# EAGLE library part PINHD-1X30 (library pinhead)
PIN HEADER
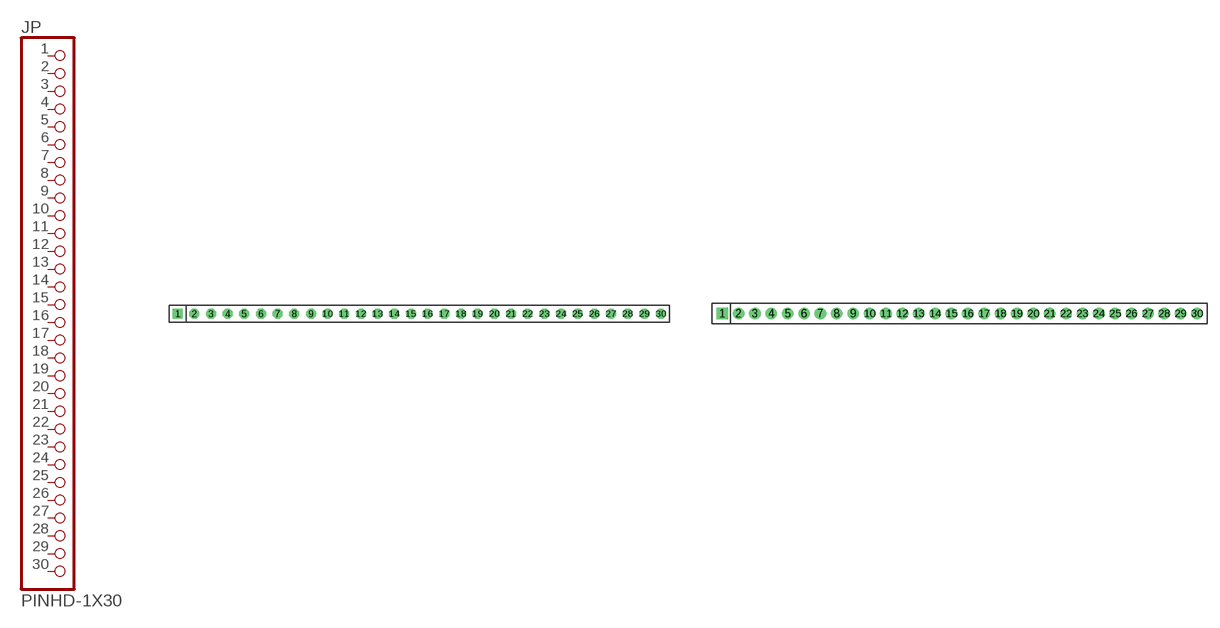
[diagram p24: symbol with the pads of 1X30; footprints 1X30, 1X30M]

Designator prefix JP

## PINHD-1X30  [1X30]
1  1  pas
2  2  pas
3  3  pas
4  4  pas
5  5  pas
6  6  pas
7  7  pas
8  8  pas
9  9  pas
10  10  pas
11  11  pas
12  12  pas
13  13  pas
14  14  pas
15  15  pas
16  16  pas
17  17  pas
18  18  pas
19  19  pas
20  20  pas
21  21  pas
22  22  pas
23  23  pas
24  24  pas
25  25  pas
26  26  pas
27  27  pas
28  28  pas
29  29  pas
30  30  pas

## PINHD-1X30M  [1X30M]
Pads as for 1X30

## Footprint 1X30 (pad centres in mm)
PIN HEADER - 0.1"
drill 1.016 square: 1 -36.83,0
drill 1.016 octagon: 2 -34.29,0; 3 -31.75,0; 4 -29.21,0; 5 -26.67,0; 6 -24.13,0; 7 -21.59,0; 8 -19.05,0; 9 -16.51,0; 10 -13.97,0; 11 -11.43,0; 12 -8.89,0; 13 -6.35,0; 14 -3.81,0; 15 -1.27,0; 16 1.27,0; 17 3.81,0; 18 6.35,0; 19 8.89,0; 20 11.43,0; 21 13.97,0; 22 16.51,0; 23 19.05,0; 24 21.59,0; 25 24.13,0; 26 26.67,0; 27 29.21,0; 28 31.75,0; 29 34.29,0; 30 36.83,0

## Footprint 1X30M (pad centres in mm)
PIN HEADER - 2MM"
drill 0.914 square: 1 -29,0
drill 0.914: 2 -27,0; 3 -25,0; 4 -23,0; 5 -21,0; 6 -19,0; 7 -17,0; 8 -15,0; 9 -13,0; 10 -11,0; 11 -9,0; 12 -7,0; 13 -5,0; 14 -3,0; 15 -1,0; 16 1,0; 17 3,0; 18 5,0; 19 7,0; 20 9,0; 21 11,0; 22 13,0; 23 15,0; 24 17,0; 25 19,0; 26 21,0; 27 23,0; 28 25,0; 29 27,0; 30 29,0